# Altium footprint library AliPadash_New.PcbLib: 58 footprints (part 2 of 4)
Each footprint in its own frame and in the unit in brackets; x right, y up, seen from the top. Pads: shape width x height; smd on the part's side, far side on the other; paste and mask are expansions set on the pad; w line width, h text height; cw(c..) or ccw(c..) is an arc to the next point about the centre after c.
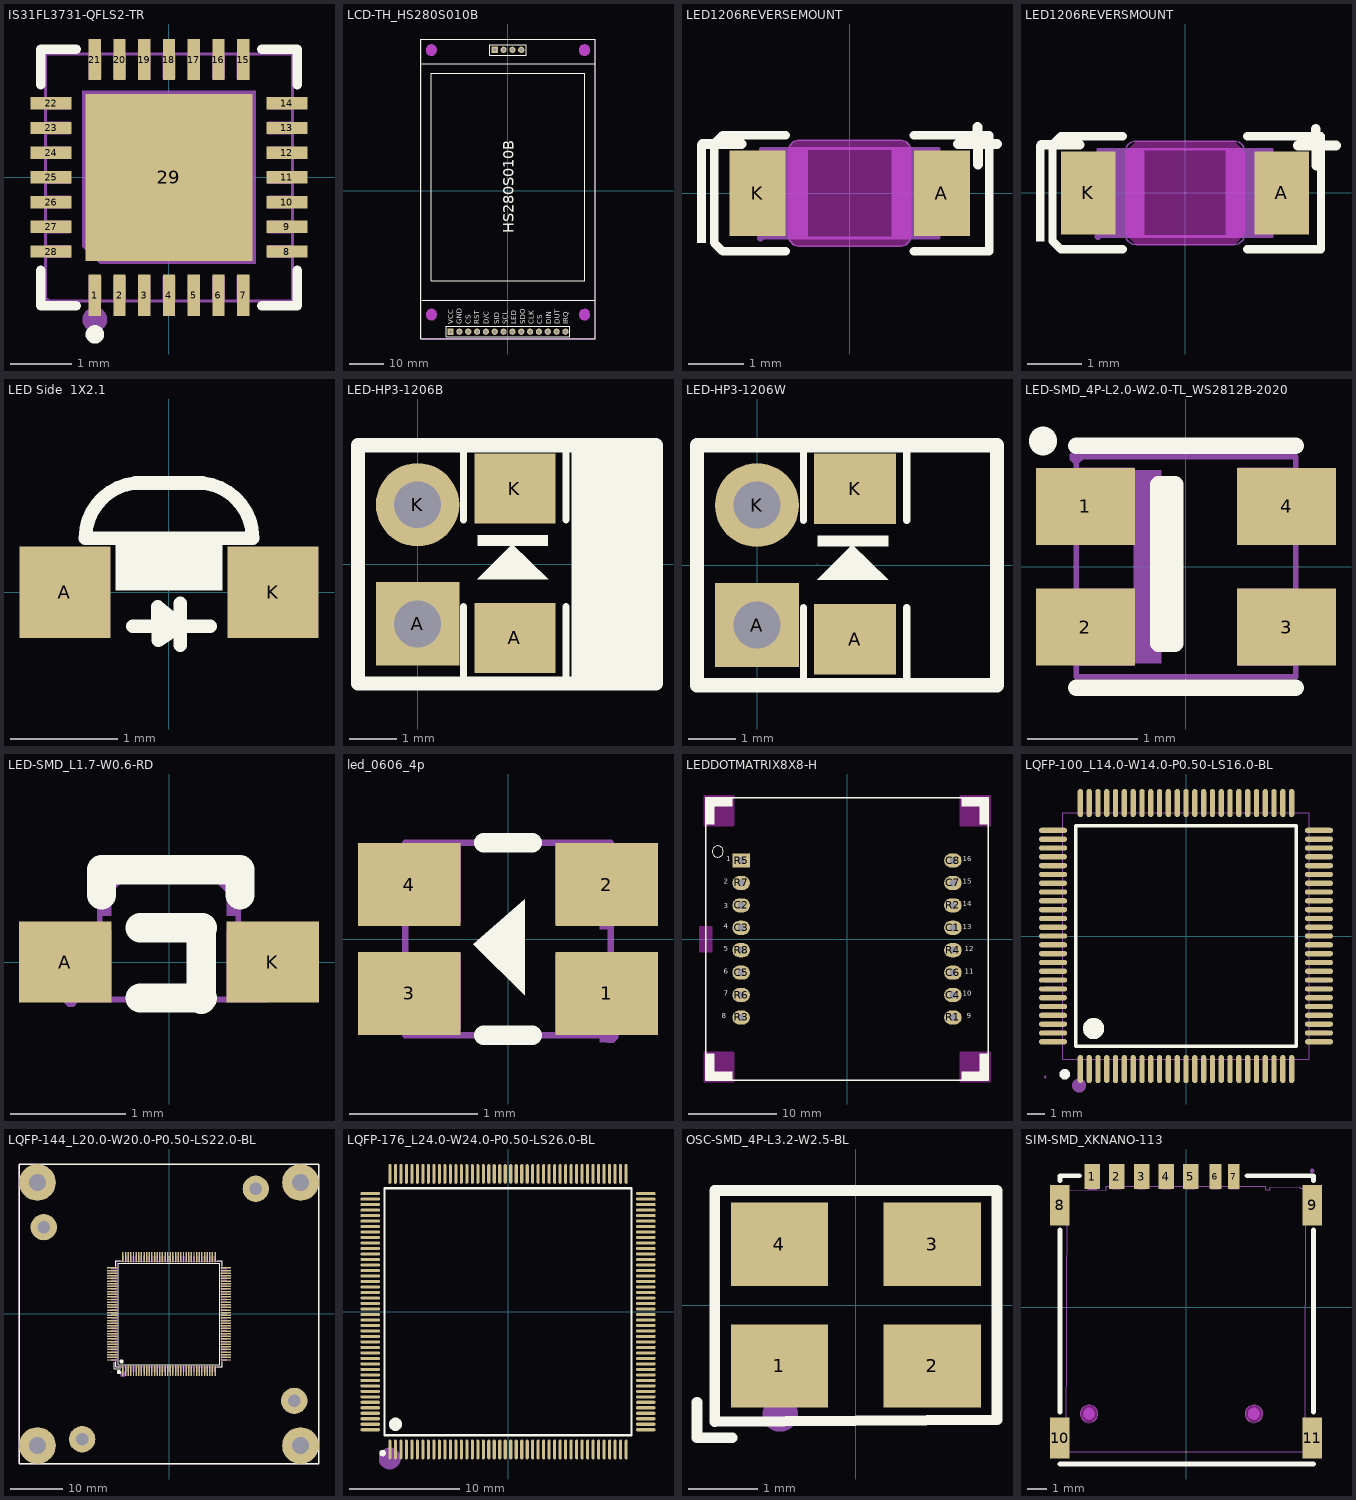
[diagram p1: the footprints below, top view; thin cyan lines are the x and y axes]

## IS31FL3731-QFLS2-TR [mm]
pads (29):
  rect 0.2x0.665 smd paste-100 mask+0.051: 1(-1.2,-1.908) 2(-0.8,-1.908) 3(-0.4,-1.908) 4(0,-1.908) 5(0.4,-1.908) 6(0.8,-1.908) 7(1.2,-1.908) 15(1.2,1.908) 16(0.8,1.908) 17(0.4,1.908) 18(0,1.908) 19(-0.4,1.908) 20(-0.8,1.908) 21(-1.2,1.908)
  rect 0.665x0.2 smd paste-100 mask+0.051: 8(1.908,-1.2) 9(1.908,-0.8) 10(1.908,-0.4) 11(1.908,0) 12(1.908,0.4) 13(1.908,0.8) 14(1.908,1.2) 22(-1.908,1.2) 23(-1.908,0.8) 24(-1.908,0.4) 25(-1.908,0) 26(-1.908,-0.4) 27(-1.908,-0.8) 28(-1.908,-1.2)
  rect 2.7x2.7 smd paste-100 mask+0.051: 29(0,0)
Top Overlay:
  circle w0.15: c-1.2,-2.54 r0.075
  lines w0.152: -2.076,-1.503 -2.076,-2.076 -1.503,-2.076 ; -2.076,1.503 -2.076,2.076 -1.503,2.076 ; 1.503,-2.076 2.076,-2.076 2.076,-1.503 ; 1.503,2.076 2.076,2.076 2.076,1.503
Top Paste:
  region: -1.08,1.08 1.08,1.08 1.08,-1.08 -1.08,-1.08
  region: -1.1,1.575 -1.1,2.24 -1.3,2.24 -1.3,1.575
  region: 1.1,2.24 1.1,1.575 1.3,1.575 1.3,2.24
  region: -0.7,1.575 -0.7,2.24 -0.9,2.24 -0.9,1.575
  region: -0.3,1.575 -0.3,2.24 -0.5,2.24 -0.5,1.575
  region: 0.1,1.575 0.1,2.24 -0.1,2.24 -0.1,1.575
  region: 0.7,2.24 0.7,1.575 0.9,1.575 0.9,2.24
  region: 0.5,1.575 0.5,2.24 0.3,2.24 0.3,1.575
  region: -2.24,1.3 -2.24,1.1 -1.575,1.1 -1.575,1.3
  region: 2.24,1.1 2.24,1.3 1.575,1.3 1.575,1.1
  region: -2.24,0.9 -2.24,0.7 -1.575,0.7 -1.575,0.9
  region: 2.24,0.7 2.24,0.9 1.575,0.9 1.575,0.7
  region: -2.24,0.5 -2.24,0.3 -1.575,0.3 -1.575,0.5
  region: 2.24,0.3 2.24,0.5 1.575,0.5 1.575,0.3
  region: -1.575,-0.1 -1.575,0.1 -2.24,0.1 -2.24,-0.1
  region: 2.24,-0.1 2.24,0.1 1.575,0.1 1.575,-0.1
  region: -2.24,-0.3 -2.24,-0.5 -1.575,-0.5 -1.575,-0.3
  region: 2.24,-0.5 2.24,-0.3 1.575,-0.3 1.575,-0.5
  region: -2.24,-0.7 -2.24,-0.9 -1.575,-0.9 -1.575,-0.7
  region: 2.24,-0.9 2.24,-0.7 1.575,-0.7 1.575,-0.9
  region: -2.24,-1.1 -2.24,-1.3 -1.575,-1.3 -1.575,-1.1
  region: 2.24,-1.3 2.24,-1.1 1.575,-1.1 1.575,-1.3
  region: 1.3,-2.24 1.3,-1.575 1.1,-1.575 1.1,-2.24
  region: -1.3,-1.575 -1.3,-2.24 -1.1,-2.24 -1.1,-1.575
  region: 0.9,-2.24 0.9,-1.575 0.7,-1.575 0.7,-2.24
  region: 0.5,-2.24 0.5,-1.575 0.3,-1.575 0.3,-2.24
  region: 0.1,-2.24 0.1,-1.575 -0.1,-1.575 -0.1,-2.24
  region: -0.9,-1.575 -0.9,-2.24 -0.7,-2.24 -0.7,-1.575
  region: -0.3,-2.24 -0.3,-1.575 -0.5,-1.575 -0.5,-2.24
Mechanical 6:
  circle w0.2: c-1.2,-2.3 r0.1
Mechanical 15:
  drawing of 34 lines, arcs and shapes, not listed

## LCD-TH_HS280S010B [mm]
pads (18):
  rect 1.8x1.8 hole 1.02 paste-2539.97 mask+0.05: 1(-16.51,-40.5) 15(-3.81,40.5)
  round 1.8 hole 1.02 paste-2539.97 mask+0.05: 2(-13.97,-40.5) 3(-11.43,-40.5) 4(-8.89,-40.5) 5(-6.35,-40.5) 6(-3.81,-40.5) 7(-1.27,-40.5) 8(1.27,-40.5) 9(3.81,-40.5) 10(6.35,-40.5) 11(8.89,-40.5) 12(11.43,-40.5) 13(13.97,-40.5) 14(16.51,-40.5) 16(-1.27,40.5) 17(1.27,40.5) 18(3.81,40.5)
Top Overlay:
  lines w0.254: -24.81,-31.5 25,-31.5 ; -24.81,36.5 25,36.5 ; -25,-42.5 25,-42.5 25,43.5 -25,43.5 -25,-42.5 ; -22,-25.81 22.03,-25.81 22.03,33.7 -22,33.7 -22,27.53 -22,-22.61 -22,-25.81 ; -17.81,-42 17.69,-42 17.69,-39 -17.81,-39 -17.81,-42 ; -5.31,39 5.19,39 5.19,42 -5.31,42 -5.31,39
  text "HS280S010B" at 1.68,-12.17 h3
  text "VCC" at -15.74,-38.4 h1.5
  text "GND" at -13.254,-38.4 h1.5
  text "CS" at -10.769,-38.399 h1.5
  text "RST" at -8.282,-38.4 h1.5
  text "D/C" at -5.522,-38.399 h1.5
  text "SID" at -2.556,-38.4 h1.5
  text "SCL" at -0.069,-38.399 h1.5
  text "LED" at 2.416,-38.399 h1.5
  text "SDO" at 4.902,-38.399 h1.5
  text "CLK" at 7.389,-38.398 h1.5
  text "CS" at 9.876,-38.399 h1.5
  text "DIN" at 12.364,-38.4 h1.5
  text "DUT" at 14.853,-38.398 h1.5
  text "IRQ" at 17.34,-38.399 h1.5
Keep-Out Layer:
  board cut-out: -20.5,-35.58 -20.501,-35.433 -20.559,-35.144 -20.673,-34.872 -20.837,-34.627 -21.046,-34.419 -21.291,-34.256 -21.564,-34.144 -21.853,-34.086 -22.147,-34.086 -22.436,-34.144 -22.709,-34.256 -22.954,-34.419 -23.163,-34.627 -23.327,-34.872 -23.441,-35.144 -23.499,-35.433 -23.5,-35.58 -23.499,-35.727 -23.441,-36.016 -23.327,-36.288 -23.163,-36.533 -22.954,-36.741 -22.709,-36.904 -22.436,-37.016 -22.147,-37.074 -21.853,-37.074 -21.564,-37.016 -21.291,-36.904 -21.046,-36.741 -20.837,-36.533 -20.673,-36.288 -20.559,-36.016 -20.501,-35.727
  board cut-out: 23.5,-35.58 23.499,-35.433 23.441,-35.144 23.327,-34.872 23.163,-34.627 22.954,-34.419 22.709,-34.256 22.436,-34.144 22.147,-34.086 21.853,-34.086 21.564,-34.144 21.291,-34.256 21.046,-34.419 20.837,-34.627 20.673,-34.872 20.559,-35.144 20.501,-35.433 20.5,-35.58 20.501,-35.727 20.559,-36.016 20.673,-36.288 20.837,-36.533 21.046,-36.741 21.291,-36.904 21.564,-37.016 21.853,-37.074 22.147,-37.074 22.436,-37.016 22.709,-36.904 22.954,-36.741 23.163,-36.533 23.327,-36.288 23.441,-36.016 23.499,-35.727
  board cut-out: 23.5,40.42 23.499,40.567 23.441,40.856 23.327,41.128 23.163,41.373 22.954,41.581 22.709,41.744 22.436,41.856 22.147,41.914 21.853,41.914 21.564,41.856 21.291,41.744 21.046,41.58 20.837,41.373 20.673,41.128 20.559,40.856 20.501,40.567 20.5,40.42 20.501,40.272 20.559,39.984 20.673,39.712 20.837,39.467 21.046,39.259 21.291,39.096 21.564,38.983 21.853,38.926 22.147,38.926 22.436,38.983 22.709,39.096 22.954,39.259 23.163,39.467 23.327,39.712 23.441,39.984 23.499,40.273
  board cut-out: -20.5,40.42 -20.501,40.567 -20.559,40.856 -20.673,41.128 -20.837,41.373 -21.046,41.581 -21.291,41.744 -21.564,41.856 -21.853,41.914 -22.147,41.914 -22.436,41.856 -22.709,41.744 -22.954,41.58 -23.163,41.373 -23.327,41.128 -23.441,40.856 -23.499,40.567 -23.5,40.42 -23.499,40.272 -23.441,39.984 -23.327,39.712 -23.163,39.467 -22.954,39.259 -22.709,39.096 -22.436,38.983 -22.147,38.926 -21.853,38.926 -21.564,38.983 -21.291,39.096 -21.046,39.259 -20.837,39.467 -20.673,39.712 -20.559,39.984 -20.501,40.273
Mechanical 1:
  circle w0.025: c-22,-35.58 r1.5
  circle w0.025: c22,-35.58 r1.5
  circle w0.025: c22,40.42 r1.5
  circle w0.025: c-22,40.42 r1.5
Mechanical 6:
  circle w1.5: c-22,-35.58 r0.75
  circle w1.5: c22,-35.58 r0.75
  circle w1.5: c22,40.42 r0.75
  circle w1.5: c-22,40.42 r0.75
  region: 25.1,43.5 25.1,-42.5 25.1,-42.52 25.085,-42.557 25.057,-42.585 25.02,-42.6 25,-42.6 -25,-42.6 -25.02,-42.6 -25.057,-42.585 -25.085,-42.557 -25.1,-42.52 -25.1,-42.5 -25.1,43.5 -25.1,43.541 -25.041,43.6 -24.958,43.6 -24.9,43.541 -24.9,43.5 -24.9,-42.4 24.9,-42.4 24.9,43.5 24.9,43.541 24.959,43.6 25.041,43.6 25.1,43.541
  region: -25,43.6 25,43.6 25.041,43.6 25.1,43.541 25.1,43.458 25.041,43.4 25,43.4 -25,43.4 -25.041,43.4 -25.1,43.458 -25.1,43.541 -25.041,43.6
Mechanical 15:
  region: -24.94,-42.5 -24.94,-42.475 -24.975,-42.44 -25.025,-42.44 -25.06,-42.475 -25.06,-42.5 -25.06,-42.525 -25.025,-42.56 -24.975,-42.56 -24.94,-42.525
  region: 3.49,40.82 4.13,40.82 4.13,40.18 3.49,40.18
  region: 0.95,40.82 1.59,40.82 1.59,40.18 0.95,40.18
  region: -1.59,40.82 -0.95,40.82 -0.95,40.18 -1.59,40.18
  region: -4.13,40.82 -3.49,40.82 -3.49,40.18 -4.13,40.18
  region: 16.19,-40.18 16.83,-40.18 16.83,-40.82 16.19,-40.82
  region: 13.65,-40.18 14.29,-40.18 14.29,-40.82 13.65,-40.82
  region: 11.11,-40.18 11.75,-40.18 11.75,-40.82 11.11,-40.82
  region: 8.57,-40.18 9.21,-40.18 9.21,-40.82 8.57,-40.82
  region: 6.03,-40.18 6.67,-40.18 6.67,-40.82 6.03,-40.82
  region: 3.49,-40.18 4.13,-40.18 4.13,-40.82 3.49,-40.82
  region: 0.95,-40.18 1.59,-40.18 1.59,-40.82 0.95,-40.82
  region: -1.59,-40.18 -0.95,-40.18 -0.95,-40.82 -1.59,-40.82
  region: -4.13,-40.18 -3.49,-40.18 -3.49,-40.82 -4.13,-40.82
  region: -6.67,-40.18 -6.03,-40.18 -6.03,-40.82 -6.67,-40.82
  region: -9.21,-40.18 -8.57,-40.18 -8.57,-40.82 -9.21,-40.82
  region: -11.75,-40.18 -11.11,-40.18 -11.11,-40.82 -11.75,-40.82
  region: -14.29,-40.18 -13.65,-40.18 -13.65,-40.82 -14.29,-40.82
  region: -16.83,-40.18 -16.19,-40.18 -16.19,-40.82 -16.83,-40.82
  lines w0.051: -25,-42.5 -25,43.5 25,43.5 25,-42.5 -25,-42.5
Multi-Layer keep-out:
  circle w0.254: c-22,-35.58 r1.5
  circle w0.254: c22,-35.58 r1.5
  circle w0.254: c22,40.42 r1.5
  circle w0.254: c-22,40.42 r1.5

## LED1206REVERSEMOUNT [mil]
pads (2):
  rect 39.37x60 smd paste+0 mask+1.97: A(65,0) K(-65,0)
Top Overlay:
  region: -101.75,-34.89 -101.75,34.89 -107.75,34.89 -107.75,-34.89
  lines w5.98: -89.75,-40.89 -45,-40.89 ; -89.75,40.89 -45,40.89 ; 45,-40.89 98.23,-40.89 ; 45,40.89 98.23,40.89
  lines w6: -89.75,-40.89 -95.75,-34.89 -95.75,34.89 -89.75,40.89 ; 98.23,-40.89 98.23,40.89
  lines w7: -103.9,34.86 -76.34,34.83 ; 76.29,34.64 103.85,34.66 ; 90.13,46.86 90.45,20.15
Keep-Out Layer:
  board cut-out: 35.43,37.4 37,37.4 39.89,36.2 42.11,33.99 43.31,31.09 43.31,29.53 43.31,-29.53 43.31,-31.09 42.11,-33.99 39.89,-36.2 37,-37.4 35.43,-37.4 -35.43,-37.4 -37,-37.4 -39.89,-36.2 -42.11,-33.99 -43.31,-31.09 -43.31,-29.53 -43.31,29.53 -43.31,31.09 -42.11,33.99 -39.89,36.2 -37,37.4 -35.43,37.4
Mechanical 1:
  lines w1: -43.31,-29.53 ccw(c-35.43,-29.53) -35.43,-37.4 35.43,-37.4 ccw(c35.43,-29.53) 43.31,-29.53 43.31,29.53 ccw(c35.43,29.53) 35.43,37.4 -35.43,37.4 ccw(c-35.43,29.53) -43.31,29.53 -43.31,-29.53
Mechanical 6:
  region: -84.17,-3.54 -84.17,3.54 -55.83,3.54 -55.83,-3.54
  region: 84.17,-3.54 84.17,3.54 55.83,3.54 55.83,-3.54
  region: 73.54,-23.62 73.54,23.62 66.46,23.62 66.46,-23.62
Mechanical 15:
  region: -62.99,31.5 -29.53,31.5 -29.53,-31.5 -62.99,-31.5
  region: 29.53,31.5 62.99,31.5 62.99,-31.5 29.53,-31.5
  region: -60.63,-31.5 -60.63,-30.52 -62.01,-29.14 -63.97,-29.14 -65.35,-30.52 -65.35,-31.5 -65.35,-32.48 -63.97,-33.86 -62.01,-33.86 -60.63,-32.48
  lines w2: -62.99,-31.5 62.99,-31.5 62.99,31.5 -62.99,31.5 -62.99,-31.5
Multi-Layer keep-out:
  region: 35.43,37.4 43.31,29.53 43.31,-29.53 35.43,-37.4 -35.43,-37.4 -43.31,-29.53 -43.31,29.53 -35.43,37.4

## LED1206REVERSMOUNT [mil]
pads (2):
  rect 39.37x60 smd paste+0 mask+1.97: A(70,0) K(-70,0)
Top Overlay:
  region: -101.75,-34.89 -101.75,34.89 -107.75,34.89 -107.75,-34.89
  lines w5.98: -89.75,-40.89 -45,-40.89 ; -89.75,40.89 -45,40.89 ; 45,-40.89 98.23,-40.89 ; 45,40.89 98.23,40.89
  lines w6: -89.75,-40.89 -95.75,-34.89 -95.75,34.89 -89.75,40.89 ; 98.23,-40.89 98.23,40.89
  lines w7: -103.9,34.86 -76.34,34.83 ; 81.57,34.18 109.13,34.2 ; 94.55,46.4 94.87,19.69
Mechanical 1:
  lines w1: -43.31,-29.53 ccw(c-35.43,-29.53) -35.43,-37.4 35.43,-37.4 ccw(c35.43,-29.53) 43.31,-29.53 43.31,29.53 ccw(c35.43,29.53) 35.43,37.4 -35.43,37.4 ccw(c-35.43,29.53) -43.31,29.53 -43.31,-29.53
Mechanical 6:
  region: -84.17,-3.54 -84.17,3.54 -55.83,3.54 -55.83,-3.54
  region: 84.17,-3.54 84.17,3.54 55.83,3.54 55.83,-3.54
  region: 73.54,-23.62 73.54,23.62 66.46,23.62 66.46,-23.62
Mechanical 15:
  region: -60.63,-31.5 -60.63,-30.52 -62.01,-29.14 -63.97,-29.14 -65.35,-30.52 -65.35,-31.5 -65.35,-32.48 -63.97,-33.86 -62.01,-33.86 -60.63,-32.48
  region: -62.99,31.5 -29.53,31.5 -29.53,-31.5 -62.99,-31.5
  region: 29.53,31.5 62.99,31.5 62.99,-31.5 29.53,-31.5
  lines w2: -62.99,-31.5 62.99,-31.5 62.99,31.5 -62.99,31.5 -62.99,-31.5
Multi-Layer keep-out:
  region: 35.43,37.4 43.31,29.53 43.31,-29.53 35.43,-37.4 -35.43,-37.4 -43.31,-29.53 -43.31,29.53 -35.43,37.4

## LED Side  1X2.1 [mm]
pads (2):
  rect 0.85x0.86 smd mask+0.05: A(-0.975,0) K(0.975,0)
Top Overlay:
  region: -0.5,0.496 -0.5,0.016 0.5,0.016 0.5,0.496
  lines w0.127: -0.34,-0.318 0.387,-0.318 ; 0.078,-0.329 -0.1,-0.45 -0.105,-0.135 0.106,-0.314 ; 0.106,-0.497 0.106,-0.102 ; -0.783,0.506 cw(c-0.263,0.506) -0.318,1.023 0.318,1.023 cw(c0.263,0.506) 0.783,0.506 -0.783,0.506

## LED-HP3-1206B [mm]
pads (4):
  rect 1.778x1.778 hole 1: A(0,-1.27)
  rect 1.728x1.485 smd paste-100 mask+0.051: A(2.075,-1.57) K(2.075,1.615)
  round 1.778 hole 1: K(0,1.27)
Top Overlay:
  rectangle: 3.28,-2.573 5.126,2.54
  rectangle: 1.278,0.393 2.779,0.628
  region: 2.018,0.429 1.276,-0.313 2.782,-0.313
  lines w0.152: 0.982,-0.903 0.982,-2.388 ccw(c1.135,-2.388) 1.135,-2.541 3.015,-2.541 ccw(c3.015,-2.388) 3.168,-2.388 3.168,-0.903 ; 0.982,0.949 0.982,2.434 cw(c1.135,2.434) 1.135,2.586 3.015,2.586 cw(c3.015,2.434) 3.168,2.434 3.168,0.949
  lines w0.305: -1.27,-2.54 -1.27,2.54 5.08,2.54 5.08,-2.54 -1.27,-2.54
Top Paste:
  region: 2.839,0.873 2.469,0.873 2.369,0.973 2.369,1.278 2.269,1.378 1.881,1.378 1.781,1.278 1.781,0.973 1.681,0.873 1.311,0.873 1.211,0.973 1.211,2.258 1.311,2.358 2.839,2.358 2.939,2.258 2.939,0.973
  region: 2.839,-0.827 2.469,-0.827 2.369,-0.927 2.369,-1.232 2.269,-1.332 1.881,-1.332 1.781,-1.232 1.781,-0.927 1.681,-0.827 1.311,-0.827 1.211,-0.927 1.211,-2.212 1.311,-2.312 2.839,-2.312 2.939,-2.212 2.939,-0.927
Mechanical 15:
  lines w0.003: 1.265,0.023 1.266,0.023
3D body "CAP 1206-0.8mm.STEP": height 0.8, standoff 0, extent 1.203,-1.65 2.803,1.55

## LED-HP3-1206W [mm]
pads (4):
  rect 1.778x1.778 hole 1: A(0,-1.27)
  rect 1.728x1.485 smd paste-100 mask+0.051: A(2.075,-1.57) K(2.075,1.615)
  round 1.778 hole 1: K(0,1.27)
Top Overlay:
  rectangle: 1.278,0.393 2.779,0.628
  region: 2.018,0.429 1.276,-0.313 2.782,-0.313
  lines w0.152: 0.982,-0.903 0.982,-2.388 ccw(c1.135,-2.388) 1.135,-2.541 3.015,-2.541 ccw(c3.015,-2.388) 3.168,-2.388 3.168,-0.903 ; 0.982,0.949 0.982,2.434 cw(c1.135,2.434) 1.135,2.586 3.015,2.586 cw(c3.015,2.434) 3.168,2.434 3.168,0.949
  lines w0.305: -1.27,-2.54 5.08,-2.54 5.08,2.54 -1.27,2.54 -1.27,-2.54
Top Paste:
  region: 2.839,-0.827 2.469,-0.827 2.369,-0.927 2.369,-1.232 2.269,-1.332 1.881,-1.332 1.781,-1.232 1.781,-0.927 1.681,-0.827 1.311,-0.827 1.211,-0.927 1.211,-2.212 1.311,-2.312 2.839,-2.312 2.939,-2.212 2.939,-0.927
  region: 2.839,0.873 2.469,0.873 2.369,0.973 2.369,1.278 2.269,1.378 1.881,1.378 1.781,1.278 1.781,0.973 1.681,0.873 1.311,0.873 1.211,0.973 1.211,2.258 1.311,2.358 2.839,2.358 2.939,2.258 2.939,0.973
Mechanical 15:
  lines w0.003: 1.265,0.023 1.266,0.023
3D body "CAP 1206-0.8mm.STEP": height 0.8, standoff 0, extent 1.203,-1.65 2.803,1.55

## LED-SMD_4P-L2.0-W2.0-TL_WS2812B-2020 [mm]
pads (4):
  rect 0.9x0.7 smd paste+0 mask+0.051: 1(-0.915,0.55) 2(-0.915,-0.55) 3(0.915,-0.55) 4(0.915,0.55)
Top Overlay:
  lines w0.152: -1,-1.1 1,-1.1 ; -1,1.1 1,1.1 ; -0.25,-0.7 -0.25,0.75 -0.1,0.75 -0.1,-0.65 -0.1,-0.7 -0.25,-0.7
  lines w0.254: -1.3,1.138 -1.3,1.15
Mechanical 6:
  region: 0.925,-0.75 0.925,-0.7 0.975,-0.7 0.975,-0.4 0.925,-0.4 0.925,-0.35 1.075,-0.35 1.075,-0.4 1.025,-0.4 1.025,-0.7 1.075,-0.7 1.075,-0.75 0.925,-0.75
  region: 0.55,-0.35 0.55,-0.75 0.7,-0.75 0.75,-0.75 0.8,-0.7 0.8,-0.4 0.75,-0.35 0.65,-0.35 0.65,-0.4 0.75,-0.4 0.75,-0.7 0.6,-0.7 0.6,-0.35
  region: -1.175,0.7 -1.175,0.3 -1.025,0.3 -0.975,0.3 -0.925,0.35 -0.925,0.65 -0.975,0.7 -1.075,0.7 -1.075,0.65 -0.975,0.65 -0.975,0.35 -1.125,0.35 -1.125,0.7
  region: -0.8,0.7 -0.85,0.65 -0.85,0.35 -0.8,0.3 -0.6,0.3 -0.55,0.35 -0.55,0.65 -0.6,0.7 -0.7,0.7 -0.7,0.65 -0.6,0.65 -0.6,0.35 -0.8,0.35 -0.8,0.65 -0.75,0.65 -0.75,0.7
  region: 0.95,0.75 0.95,0.45 1.1,0.45 1.1,0.35 1.15,0.35 1.15,0.45 1.25,0.45 1.25,0.5 1.15,0.5 1.15,0.65 1.1,0.65 1.1,0.5 1,0.5 1,0.75
  region: -0.225,0.88 -0.225,-0.88 -0.475,-0.88 -0.475,0.88
  region: 0.56,0.6 0.8,0.6 0.8,0.55 0.56,0.55
  region: 0.655,0.455 0.655,0.695 0.705,0.695 0.705,0.455
  region: -1.18,-0.665 -0.94,-0.665 -0.94,-0.715 -1.18,-0.715
  region: -0.82,-0.38 -0.58,-0.38 -0.58,-0.56 -0.79,-0.56 -0.79,-0.67 -0.58,-0.67 -0.58,-0.72 -0.82,-0.72 -0.83,-0.72 -0.83,-0.71 -0.83,-0.52 -0.61,-0.52 -0.61,-0.42 -0.83,-0.42 -0.83,-0.38
Mechanical 15:
  region: -1,0.2 -1,0.9 -0.475,0.9 -0.475,0.2
  region: -1,-0.9 -1,-0.2 -0.475,-0.2 -0.475,-0.9
  region: 0.475,-0.9 0.475,-0.2 1,-0.2 1,-0.9
  region: 0.475,0.2 0.475,0.9 1,0.9 1,0.2
  region: -0.94,1 -0.94,1.025 -0.975,1.059 -1.025,1.059 -1.06,1.025 -1.06,1 -1.06,0.975 -1.025,0.941 -0.975,0.941 -0.94,0.976
  lines w0.051: -1,-1 -1,1 1,1 1,-1 -1,-1

## LED-SMD_L1.7-W0.6-RD [mm]
pads (2):
  rect 0.8x0.7 smd paste+0 mask+0.051: A(-0.9,0) K(0.9,0)
Top Overlay:
  lines w0.254: -0.585,0.581 -0.585,0.8 0.615,0.8 0.615,0.581 ; -0.249,-0.312 0.289,-0.312 ; -0.249,0.298 0.289,0.298 ; 0.28,-0.322 0.28,0.278
Mechanical 6:
  region: 0.642,-0.035 0.642,0.035 1.162,0.035 1.162,-0.035
  region: 0.935,-0.258 0.865,-0.258 0.865,0.262 0.935,0.262
  region: -1.158,-0.035 -1.158,0.035 -0.638,0.035 -0.638,-0.035
  region: -0.6,0.4 -0.6,0.575 -0.6,0.675 -0.5,0.775 -0.4,0.775 0.5,0.775 0.6,0.675 0.6,0.4 0.5,0.4 0.5,0.6 0.4,0.7 -0.4,0.7 -0.5,0.6 -0.5,0.4
Mechanical 15:
  region: -0.79,-0.325 -0.79,-0.3 -0.825,-0.265 -0.875,-0.265 -0.91,-0.3 -0.91,-0.325 -0.91,-0.35 -0.875,-0.385 -0.825,-0.385 -0.79,-0.35
  region: 0.5,-0.325 0.5,0.275 0.85,0.275 0.85,-0.325
  region: -0.85,-0.325 -0.85,0.275 -0.5,0.275 -0.5,-0.325
  lines w0.051: -0.85,-0.325 -0.85,0.275 -0.6,0.275 -0.6,0.775 0.6,0.775 0.6,0.275 0.85,0.275 0.85,-0.305 0.85,-0.325 -0.85,-0.325

## led_0606_4p [mm]
pads (4):
  rect 0.8x0.65 smd paste+0 mask+0.051: 1(0.769,-0.425) 2(0.77,0.425) 3(-0.77,-0.425) 4(-0.77,0.425)
Top Overlay:
  region: 0.13,0.31 0.13,-0.44 -0.27,-0.04
  lines w0.152: -0.19,-0.75 0.189,-0.75 ; -0.19,0.75 0.19,0.75
Mechanical 6:
  region: 0.814,-0.805 0.814,-0.125 0.714,-0.125 0.714,-0.805
  region: 0.42,-0.5 1.1,-0.5 1.1,-0.4 0.42,-0.4
  region: -1.12,-0.47 -0.44,-0.47 -0.44,-0.37 -1.12,-0.37
  region: 0.814,0.075 0.814,0.755 0.714,0.755 0.714,0.075
  region: 0.42,0.38 1.1,0.38 1.1,0.48 0.42,0.48
  region: -1.11,0.39 -0.43,0.39 -0.43,0.49 -1.11,0.49
Mechanical 15:
  region: 0.37,-0.72 0.37,-0.12 0.77,-0.12 0.77,-0.72
  region: -0.77,-0.71 -0.77,-0.11 -0.37,-0.11 -0.37,-0.71
  region: 0.37,0.12 0.37,0.72 0.77,0.72 0.77,0.12
  region: -0.77,0.13 -0.77,0.73 -0.37,0.73 -0.37,0.13
  region: 0.86,-0.75 0.859,-0.726 0.824,-0.692 0.776,-0.692 0.741,-0.726 0.74,-0.75 0.741,-0.774 0.776,-0.808 0.824,-0.808 0.859,-0.774
  lines w0.051: -0.8,-0.75 -0.8,0.75 0.8,0.75 0.8,-0.75 -0.8,-0.75

## LEDDOTMATRIX8X8-H [mm]
pads (16):
  oval 2x1.6 hole 0.8: C1(12,1.27) C2(-12,3.81) C3(-12,1.27) C4(12,-6.35) C5(-12,-3.81) C6(12,-3.81) C7(12,6.35) C8(12,8.89) R1(12,-8.89) R2(12,3.81) R3(-12,-8.89) R4(12,-1.27) R6(-12,-6.35) R7(-12,6.35) R8(-12,-1.27)
  rect 2x1.6 hole 0.8: R5(-12,8.89)
Top Overlay:
  circle w0.127: c-14.652,9.915 r0.635
  region: 16,13 16,16 15,16 15,13
  rectangle: 13,15 16,16
  region: -15,13 -15,16 -16,16 -16,13
  region: -13,16 -16,16 -16,15 -13,15
  region: 15,-13 15,-16 16,-16 16,-13
  rectangle: 13,-16 16,-15
  region: -16,-13 -16,-16 -15,-16 -15,-13
  region: -13,-15 -16,-15 -16,-16 -13,-16
  lines w0.2: -16,-16 -16,16 16,16 16,-16 -16,-16
  text "16" at 13.122,8.562 h1
  text "12" at 13.338,-1.592 h1
  text "10" at 13.124,-6.678 h1
  text "4" at -13.978,0.943 h1
  text "14" at 13.123,3.483 h1
  text "7" at -13.964,-6.677 h1
  text "8" at -14.179,-9.218 h1
  text "5" at -13.971,-1.592 h1
  text "15" at 13.121,6.022 h1
  text "9" at 13.567,-9.193 h1
  text "13" at 13.129,0.872 h1
  text "6" at -13.962,-4.138 h1
  text "11" at 13.349,-4.137 h1
  text "3" at -13.968,3.272 h1
  text "2" at -13.956,6.028 h1
  text "1" at -13.692,8.604 h1
Keep-Out Layer:
  board cut-out: -16.701,1.394 -15.309,1.394 -15.309,-1.443 -16.701,-1.443
  board cut-out: -16.163,12.866 -16.163,16.166 -12.863,16.166 -12.863,12.866
  board cut-out: 16.163,12.866 16.163,16.166 12.863,16.166 12.863,12.866
  board cut-out: 16.163,-12.866 16.163,-16.166 12.863,-16.166 12.863,-12.866
  board cut-out: -16.163,-12.866 -16.163,-16.166 -12.863,-16.166 -12.863,-12.866
Keep-Out Layer:
  lines w0.178: -16.701,-1.443 -15.309,-1.443 -15.309,1.394 -16.701,1.394 -16.701,-1.443
  lines w0.254: -16.163,-16.159 -12.863,-16.159 -12.863,-12.859 -16.163,-12.859 -16.163,-16.159 ; -16.163,12.866 -12.863,12.866 -12.863,16.166 -16.163,16.166 -16.163,12.866 ; 12.87,-16.159 16.17,-16.159 16.17,-12.859 12.87,-12.859 12.87,-16.159 ; 12.87,12.866 16.17,12.866 16.17,16.166 12.87,16.166 12.87,12.866

## LQFP-100_L14.0-W14.0-P0.50-LS16.0-BL [mm]
pads (100):
  oval 0.3x1.6 smd paste-100 mask+0.051: 1(-6,-7.55) 2(-5.5,-7.55) 3(-5,-7.55) 4(-4.5,-7.55) 5(-4,-7.55) 6(-3.5,-7.55) 7(-3,-7.55) 8(-2.5,-7.55) 9(-2,-7.55) 10(-1.5,-7.55) 11(-1,-7.55) 12(-0.5,-7.55) 13(0,-7.55) 14(0.5,-7.55) 15(1,-7.55) 16(1.5,-7.55) 17(2,-7.55) 18(2.5,-7.55) 19(3,-7.55) 20(3.5,-7.55) 21(4,-7.55) 22(4.5,-7.55) 23(5,-7.55) 24(5.5,-7.55) 25(6,-7.55) 51(6,7.55) 52(5.5,7.55) 53(5,7.55) 54(4.5,7.55) 55(4,7.55) 56(3.5,7.55) 57(3,7.55) 58(2.5,7.55) 59(2,7.55) 60(1.5,7.55) 61(1,7.55) 62(0.5,7.55) 63(0,7.55) 64(-0.5,7.55) 65(-1,7.55) 66(-1.5,7.55) 67(-2,7.55) 68(-2.5,7.55) 69(-3,7.55) 70(-3.5,7.55) 71(-4,7.55) 72(-4.5,7.55) 73(-5,7.55) 74(-5.5,7.55) 75(-6,7.55)
  oval 1.6x0.3 smd paste-100 mask+0.051: 26(7.55,-6) 27(7.55,-5.5) 28(7.55,-5) 29(7.55,-4.5) 30(7.55,-4) 31(7.55,-3.5) 32(7.55,-3) 33(7.55,-2.5) 34(7.55,-2) 35(7.55,-1.5) 36(7.55,-1) 37(7.55,-0.5) 38(7.55,0) 39(7.55,0.5) 40(7.55,1) 41(7.55,1.5) 42(7.55,2) 43(7.55,2.5) 44(7.55,3) 45(7.55,3.5) 46(7.55,4) 47(7.55,4.5) 48(7.55,5) 49(7.55,5.5) 50(7.55,6) 76(-7.55,6) 77(-7.55,5.5) 78(-7.55,5) 79(-7.55,4.5) 80(-7.55,4) 81(-7.55,3.5) 82(-7.55,3) 83(-7.55,2.5) 84(-7.55,2) 85(-7.55,1.5) 86(-7.55,1) 87(-7.55,0.5) 88(-7.55,0) 89(-7.55,-0.5) 90(-7.55,-1) 91(-7.55,-1.5) 92(-7.55,-2) 93(-7.55,-2.5) 94(-7.55,-3) 95(-7.55,-3.5) 96(-7.55,-4) 97(-7.55,-4.5) 98(-7.55,-5) 99(-7.55,-5.5) 100(-7.55,-6)
Top Overlay:
  lines w0.2: -6.25,-6.25 6.25,-6.25 6.25,6.25 -6.25,6.25 -6.25,-6.25
  lines w0.3: -6.883,-7.696 ccw(c-6.882,-7.846) -6.881,-7.696
  lines w0.6: -5.25,-4.95 ccw(c-5.248,-5.251) -5.245,-4.95
Top Paste:
  drawing of 100 lines, arcs and shapes, not listed
Mechanical 6:
  circle w0.4: c-6.071,-8.484 r0.2
Mechanical 15:
  drawing of 205 lines, arcs and shapes, not listed

## LQFP-144_L20.0-W20.0-P0.50-LS22.0-BL [mm]
pads (152):
  oval 0.28x2 smd paste+0 mask+0.051: 1(-8.75,-10.8) 2(-8.25,-10.8) 3(-7.75,-10.8) 4(-7.25,-10.8) 5(-6.75,-10.8) 6(-6.25,-10.8) 7(-5.75,-10.8) 8(-5.25,-10.8) 9(-4.75,-10.8) 10(-4.25,-10.8) 11(-3.75,-10.8) 12(-3.25,-10.8) 13(-2.75,-10.8) 14(-2.25,-10.8) 15(-1.75,-10.8) 16(-1.25,-10.8) 17(-0.75,-10.8) 18(-0.25,-10.8) 19(0.25,-10.8) 20(0.75,-10.8) 21(1.25,-10.8) 22(1.75,-10.8) 23(2.25,-10.8) 24(2.75,-10.8) 25(3.25,-10.8) 26(3.75,-10.8) 27(4.25,-10.8) 28(4.75,-10.8) 29(5.25,-10.8) 30(5.75,-10.8) 31(6.25,-10.8) 32(6.75,-10.8) 33(7.25,-10.8) 34(7.75,-10.8) 35(8.25,-10.8) 36(8.75,-10.8) 73(8.75,10.8) 74(8.25,10.8) 75(7.75,10.8) 76(7.25,10.8) 77(6.75,10.8) 78(6.25,10.8) 79(5.75,10.8) 80(5.25,10.8) 81(4.75,10.8) 82(4.25,10.8) 83(3.75,10.8) 84(3.25,10.8) 85(2.75,10.8) 86(2.25,10.8) 87(1.75,10.8) 88(1.25,10.8) 89(0.75,10.8) 90(0.25,10.8) 91(-0.25,10.8) 92(-0.75,10.8) 93(-1.25,10.8) 94(-1.75,10.8) 95(-2.25,10.8) 96(-2.75,10.8) 97(-3.25,10.8) 98(-3.75,10.8) 99(-4.25,10.8) 100(-4.75,10.8) 101(-5.25,10.8) 102(-5.75,10.8) 103(-6.25,10.8) 104(-6.75,10.8) 105(-7.25,10.8) 106(-7.75,10.8) 107(-8.25,10.8) 108(-8.75,10.8)
  oval 2x0.28 smd paste+0 mask+0.051: 37(10.8,-8.75) 38(10.8,-8.25) 39(10.8,-7.75) 40(10.8,-7.25) 41(10.8,-6.75) 42(10.8,-6.25) 43(10.8,-5.75) 44(10.8,-5.25) 45(10.8,-4.75) 46(10.8,-4.25) 47(10.8,-3.75) 48(10.8,-3.25) 49(10.8,-2.75) 50(10.8,-2.25) 51(10.8,-1.75) 52(10.8,-1.25) 53(10.8,-0.75) 54(10.8,-0.25) 55(10.8,0.25) 56(10.8,0.75) 57(10.8,1.25) 58(10.8,1.75) 59(10.8,2.25) 60(10.8,2.75) 61(10.8,3.25) 62(10.8,3.75) 63(10.8,4.25) 64(10.8,4.75) 65(10.8,5.25) 66(10.8,5.75) 67(10.8,6.25) 68(10.8,6.75) 69(10.8,7.25) 70(10.8,7.75) 71(10.8,8.25) 72(10.8,8.75) 109(-10.8,8.75) 110(-10.8,8.25) 111(-10.8,7.75) 112(-10.8,7.25) 113(-10.8,6.75) 114(-10.8,6.25) 115(-10.8,5.75) 116(-10.8,5.25) 117(-10.8,4.75) 118(-10.8,4.25) 119(-10.8,3.75) 120(-10.8,3.25) 121(-10.8,2.75) 122(-10.8,2.25) 123(-10.8,1.75) 124(-10.8,1.25) 125(-10.8,0.75) 126(-10.8,0.25) 127(-10.8,-0.25) 128(-10.8,-0.75) 129(-10.8,-1.25) 130(-10.8,-1.75) 131(-10.8,-2.25) 132(-10.8,-2.75) 133(-10.8,-3.25) 134(-10.8,-3.75) 135(-10.8,-4.25) 136(-10.8,-4.75) 137(-10.8,-5.25) 138(-10.8,-5.75) 139(-10.8,-6.25) 140(-10.8,-6.75) 141(-10.8,-7.25) 142(-10.8,-7.75) 143(-10.8,-8.25) 144(-10.8,-8.75)
  round 7 hole 3.2 mask+0.102: ""(-25.006,-25.007) ""(-25.006,24.993) ""(24.994,-25.007) ""(24.994,24.993)
  round 5 hole 2.4 mask+0.102: ""(-23.806,16.493) ""(-16.506,-23.807) ""(16.494,23.793) ""(23.794,-16.507)
Top Overlay:
  circle w0.4: c-9.017,-9.017 r0.2
  circle w0.4: c-9.525,-11.049 r0.2
  lines w0.152: -10.414,-9.144 -10.414,-10.414 -9.144,-10.414 ; -10.076,-9.081 -10.076,-10.076 -9.08,-10.076 ; -10.076,9.08 -10.076,10.076 -9.08,10.076 ; 9.081,-10.076 10.076,-10.076 10.076,-9.081 ; 9.081,10.076 10.076,10.076 10.076,9.08 ; -9.671,-9.671 9.671,-9.671 9.671,9.671 -9.671,9.671 -9.671,-9.671
  lines w0.254: -28.5,28.487 28.5,28.487 ; -28.5,28.5 -28.5,-28.5 28.5,-28.5 ; 28.487,-28.513 28.487,28.487
Mechanical 1:
  circle w0.013: c24.994,-25.007 r1.6
  circle w0.013: c24.994,24.993 r1.6
  circle w0.013: c-25.006,24.993 r1.6
  circle w0.013: c-25.006,-25.007 r1.6
  circle w0.013: c16.494,23.793 r1.2
  circle w0.013: c-23.806,16.493 r1.2
  circle w0.013: c-16.506,-23.807 r1.2
  circle w0.013: c23.794,-16.507 r1.2
  lines w0.013: -28.506,-28.507 28.494,-28.507 28.494,28.493 -28.506,28.493 -28.506,-28.507
Mechanical 6:
  circle w0.6: c-8.75,-11.4 r0.3
Mechanical 15:
  drawing of 293 lines, arcs and shapes, not listed

## LQFP-176_L24.0-W24.0-P0.50-LS26.0-BL [mm]
pads (176):
  oval 0.28x1.8 smd paste+0 mask+0.051: 1(-10.75,-12.55) 2(-10.25,-12.55) 3(-9.75,-12.55) 4(-9.25,-12.55) 5(-8.75,-12.55) 6(-8.25,-12.55) 7(-7.75,-12.55) 8(-7.25,-12.55) 9(-6.75,-12.55) 10(-6.25,-12.55) 11(-5.75,-12.55) 12(-5.25,-12.55) 13(-4.75,-12.55) 14(-4.25,-12.55) 15(-3.75,-12.55) 16(-3.25,-12.55) 17(-2.75,-12.55) 18(-2.25,-12.55) 19(-1.75,-12.55) 20(-1.25,-12.55) 21(-0.75,-12.55) 22(-0.25,-12.55) 23(0.25,-12.55) 24(0.75,-12.55) 25(1.25,-12.55) 26(1.75,-12.55) 27(2.25,-12.55) 28(2.75,-12.55) 29(3.25,-12.55) 30(3.75,-12.55) 31(4.25,-12.55) 32(4.75,-12.55) 33(5.25,-12.55) 34(5.75,-12.55) 35(6.25,-12.55) 36(6.75,-12.55) 37(7.25,-12.55) 38(7.75,-12.55) 39(8.25,-12.55) 40(8.75,-12.55) 41(9.25,-12.55) 42(9.75,-12.55) 43(10.25,-12.55) 44(10.75,-12.55) 89(10.75,12.55) 90(10.25,12.55) 91(9.75,12.55) 92(9.25,12.55) 93(8.75,12.55) 94(8.25,12.55) 95(7.75,12.55) 96(7.25,12.55) 97(6.75,12.55) 98(6.25,12.55) 99(5.75,12.55) 100(5.25,12.55) 101(4.75,12.55) 102(4.25,12.55) 103(3.75,12.55) 104(3.25,12.55) 105(2.75,12.55) 106(2.25,12.55) 107(1.75,12.55) 108(1.25,12.55) 109(0.75,12.55) 110(0.25,12.55) 111(-0.25,12.55) 112(-0.75,12.55) 113(-1.25,12.55) 114(-1.75,12.55) 115(-2.25,12.55) 116(-2.75,12.55) 117(-3.25,12.55) 118(-3.75,12.55) 119(-4.25,12.55) 120(-4.75,12.55) 121(-5.25,12.55) 122(-5.75,12.55) 123(-6.25,12.55) 124(-6.75,12.55) 125(-7.25,12.55) 126(-7.75,12.55) 127(-8.25,12.55) 128(-8.75,12.55) 129(-9.25,12.55) 130(-9.75,12.55) 131(-10.25,12.55) 132(-10.75,12.55)
  oval 1.8x0.28 smd paste+0 mask+0.051: 45(12.55,-10.75) 46(12.55,-10.25) 47(12.55,-9.75) 48(12.55,-9.25) 49(12.55,-8.75) 50(12.55,-8.25) 51(12.55,-7.75) 52(12.55,-7.25) 53(12.55,-6.75) 54(12.55,-6.25) 55(12.55,-5.75) 56(12.55,-5.25) 57(12.55,-4.75) 58(12.55,-4.25) 59(12.55,-3.75) 60(12.55,-3.25) 61(12.55,-2.75) 62(12.55,-2.25) 63(12.55,-1.75) 64(12.55,-1.25) 65(12.55,-0.75) 66(12.55,-0.25) 67(12.55,0.25) 68(12.55,0.75) 69(12.55,1.25) 70(12.55,1.75) 71(12.55,2.25) 72(12.55,2.75) 73(12.55,3.25) 74(12.55,3.75) 75(12.55,4.25) 76(12.55,4.75) 77(12.55,5.25) 78(12.55,5.75) 79(12.55,6.25) 80(12.55,6.75) 81(12.55,7.25) 82(12.55,7.75) 83(12.55,8.25) 84(12.55,8.75) 85(12.55,9.25) 86(12.55,9.75) 87(12.55,10.25) 88(12.55,10.75) 133(-12.55,10.75) 134(-12.55,10.25) 135(-12.55,9.75) 136(-12.55,9.25) 137(-12.55,8.75) 138(-12.55,8.25) 139(-12.55,7.75) 140(-12.55,7.25) 141(-12.55,6.75) 142(-12.55,6.25) 143(-12.55,5.75) 144(-12.55,5.25) 145(-12.55,4.75) 146(-12.55,4.25) 147(-12.55,3.75) 148(-12.55,3.25) 149(-12.55,2.75) 150(-12.55,2.25) 151(-12.55,1.75) 152(-12.55,1.25) 153(-12.55,0.75) 154(-12.55,0.25) 155(-12.55,-0.25) 156(-12.55,-0.75) 157(-12.55,-1.25) 158(-12.55,-1.75) 159(-12.55,-2.25) 160(-12.55,-2.75) 161(-12.55,-3.25) 162(-12.55,-3.75) 163(-12.55,-4.25) 164(-12.55,-4.75) 165(-12.55,-5.25) 166(-12.55,-5.75) 167(-12.55,-6.25) 168(-12.55,-6.75) 169(-12.55,-7.25) 170(-12.55,-7.75) 171(-12.55,-8.25) 172(-12.55,-8.75) 173(-12.55,-9.25) 174(-12.55,-9.75) 175(-12.55,-10.25) 176(-12.55,-10.75)
Top Overlay:
  lines w0.2: -11.25,-11.25 11.25,-11.25 11.25,11.25 -11.25,11.25 -11.25,-11.25
  lines w0.3: -11.425,-12.725 ccw(c-11.424,-12.875) -11.422,-12.725
  lines w0.6: -10.249,-9.949 ccw(c-10.246,-10.249) -10.244,-9.949
Mechanical 15:
  circle w1: c-10.77,-13.37 r0.5

## OSC-SMD_4P-L3.2-W2.5-BL [mm]
pads (4):
  rect 1.4x1.2 smd paste+0 mask+0.051: 1(-1.1,-0.875) 2(1.1,-0.875) 3(1.1,0.875) 4(-1.1,0.875)
Top Overlay:
  lines w0.152: -2.286,-1.397 -2.286,-1.905 -1.778,-1.905 ; -2.029,-1.679 -2.029,1.651 2.032,1.651 2.032,0 2.032,-1.651 -2.029,-1.679
Mechanical 15:
  circle w0.254: c-1.088,-1.567 r0.127
  region: -1.486,-0.428 -1.45,-0.428 -1.45,-1.004 -1.486,-1.004
  region: -1.522,-0.428 -1.486,-0.428 -1.486,-1.004 -1.522,-1.004
  region: -1.558,-0.428 -1.522,-0.428 -1.522,-1.004 -1.558,-1.004
  region: -1.594,-0.464 -1.558,-0.464 -1.558,-1.004 -1.594,-1.004
  region: -1.63,-0.464 -1.594,-0.464 -1.594,-0.572 -1.63,-0.572
  region: -1.666,-0.5 -1.63,-0.5 -1.63,-0.608 -1.666,-0.608
  region: -1.702,-0.536 -1.666,-0.536 -1.666,-0.608 -1.702,-0.608
  region: -1.738,-0.536 -1.702,-0.536 -1.702,-0.608 -1.738,-0.608
  region: -1.46,0.952 -0.699,0.952 -0.699,0.825 -1.46,0.825
  region: -1.206,1.206 -1.206,0.571 -1.079,0.571 -1.079,1.206

## SIM-SMD_XKNANO-113 [mm]
pads (11):
  rect 0.8x1.3 smd paste+0 mask+0.051: 1(-4.83,6.74) 2(-3.56,6.74) 3(-2.29,6.74) 4(-1.02,6.74) 5(0.25,6.74)
  rect 0.6x1.3 smd paste+0 mask+0.051: 6(1.52,6.74) 7(2.47,6.74)
  rect 1x2.1 smd paste+0 mask+0.051: 8(-6.5,5.26) 9(6.5,5.26) 10(-6.5,-6.74) 11(6.5,-6.74)
Top Overlay:
  lines w0.254: -6.5,-8.075 6.581,-8.075 ; -6.5,-5.408 -6.5,3.99 ; -6.5,6.53 -6.5,6.784 -5.484,6.784 ; 3.152,6.784 6.581,6.784 6.581,6.53 ; 6.581,-5.408 6.581,3.99
Keep-Out Layer:
  board cut-out: 3.95,-5.49 3.949,-5.401 3.88,-5.237 3.753,-5.112 3.589,-5.045 3.411,-5.045 3.247,-5.112 3.12,-5.237 3.051,-5.401 3.05,-5.49 3.051,-5.579 3.12,-5.743 3.247,-5.868 3.411,-5.935 3.589,-5.935 3.753,-5.868 3.88,-5.743 3.949,-5.579
  board cut-out: -4.55,-5.49 -4.551,-5.401 -4.62,-5.237 -4.747,-5.112 -4.911,-5.045 -5.089,-5.045 -5.253,-5.112 -5.38,-5.237 -5.449,-5.401 -5.45,-5.49 -5.449,-5.579 -5.38,-5.743 -5.253,-5.868 -5.089,-5.935 -4.911,-5.935 -4.747,-5.868 -4.62,-5.743 -4.551,-5.579
Mechanical 1:
  circle w0.005: c3.5,-5.49 r0.45
  circle w0.005: c-5,-5.49 r0.45
Mechanical 6:
  region: -5.3,-5.49 -5.3,-5.43 -5.255,-5.319 -5.171,-5.234 -5.06,-5.187 -4.94,-5.187 -4.829,-5.234 -4.744,-5.319 -4.699,-5.43 -4.7,-5.49 -4.699,-5.55 -4.744,-5.661 -4.829,-5.747 -4.94,-5.793 -5.06,-5.793 -5.171,-5.747 -5.255,-5.661 -5.3,-5.55
  region: 3.2,-5.49 3.199,-5.43 3.245,-5.319 3.329,-5.234 3.44,-5.187 3.56,-5.187 3.671,-5.234 3.755,-5.319 3.801,-5.43 3.8,-5.49 3.801,-5.55 3.755,-5.661 3.671,-5.747 3.56,-5.793 3.44,-5.793 3.329,-5.747 3.245,-5.661 3.199,-5.55
Mechanical 15:
  region: 6.6,7.04 6.599,7.081 6.541,7.137 6.459,7.137 6.401,7.081 6.4,7.04 6.401,6.999 6.459,6.943 6.541,6.943 6.599,6.999
  region: 2.245,7.09 2.695,7.09 2.695,6.09 2.245,6.09
  region: 1.295,7.09 1.745,7.09 1.745,6.09 1.295,6.09
  region: 0.025,7.09 0.475,7.09 0.475,6.09 0.025,6.09
  region: -1.245,7.09 -0.795,7.09 -0.795,6.09 -1.245,6.09
  region: -2.515,7.09 -2.065,7.09 -2.065,6.09 -2.515,6.09
  region: -3.785,7.09 -3.335,7.09 -3.335,6.09 -3.785,6.09
  region: -5.055,7.09 -4.605,7.09 -4.605,6.09 -5.055,6.09
  region: -6.54,6.04 -6.04,6.04 -6.04,4.54 -6.54,4.54
  region: 6.05,6.05 6.55,6.05 6.55,4.55 6.05,4.55
  region: 6.05,-5.95 6.55,-5.95 6.55,-7.45 6.05,-7.45
  region: -6.54,-5.95 -6.04,-5.95 -6.04,-7.45 -6.54,-7.45
  region: -5.055,6.04 -5.055,6.11 -4.605,6.11 -4.605,6.04
  lines w0.051: -6.17,-7.44 -6.13,6.05 -4.11,6.04 -4.1,6.24 4.1,6.25 4.1,6.06 4.31,6.05 4.3,6.19 5.9,6.21 5.9,6.13 6.17,6.13 6.14,-5.95 6.14,-7.44 -6.17,-7.44